# Altium schematic symbol library KH-3635-CAJ.Schlib: 1 symbol
Pins are listed as number, name and electrical type; pins without a type are passive.

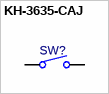
[diagram p0: symbol KH-3635-CAJ]

## KH-3635-CAJ
designator SW?
pins: 1 C, 2 D, 3 A hidden, 4 B hidden